# Altium schematic symbol library new_part.SchLib: 1 symbol
Pins are listed as number, name and electrical type; pins without a type are passive.

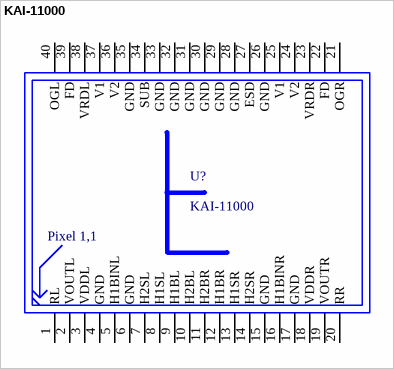
[diagram p0: symbol KAI-11000]

## KAI-11000
designator U?
pins: 1 RL, 2 VOUTL, 3 VDDL, 4 GND, 5 H1BINL, 6 GND, 7 H2SL, 8 H1SL, 9 H1BL, 10 H2BL, 11 H2BR, 12 H1BR, 13 H1SR, 14 H2SR, 15 GND, 16 H1BINR, 17 GND, 18 VDDR, 19 VOUTR, 20 RR, 21 OGR, 22 FD, 23 VRDR, 24 V2, 25 V1, 26 GND, 27 ESD, 28 GND, 29 GND, 30 GND, 31 GND, 32 GND, 33 GND, 34 SUB, 35 GND, 36 V2, 37 V1, 38 VRDL, 39 FD, 40 OGL
text: Pixel 1,1